# EAGLE library part 140M_SAW (library Lasser)
140 MHz SAW Filter Layout fits for Telefilter TFS140AV or SAWTEK 854909 Std. 140MHz filter
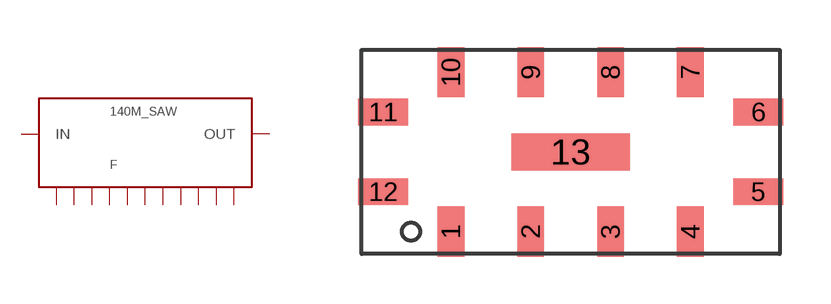
[diagram p9: symbol with the pads of SMP_53A; footprint SMP_53A]

Designator prefix F

## 140M_SAW854913  [SMP_53A]
1  P$1
2  P$2
3  P$3
4  P$4
5  OUT
6  P$5
7  P$6
8  P$7
9  P$8
10  P$9
11  IN
12  P$10
13  P$11

## Footprint SMP_53A (pad centres in mm)
SMP-53 (Für Sawtek gebastelt)
smd 0.85 x 1.6: 1 -3.81,-2.54; 2 -1.27,-2.54; 3 1.27,-2.54; 4 3.81,-2.54; 7 3.81,2.54; 8 1.27,2.54; 9 -1.27,2.54; 10 -3.81,2.54
smd 1.6 x 0.85: 5 5.969,-1.27; 6 5.969,1.27; 11 -5.969,1.27; 12 -5.969,-1.27
smd 3.76 x 1.17: 13 0,0